# Altium schematic symbol library XC6901D251MR-G.Schlib: 1 symbol
Pins are listed as number, name and electrical type; pins without a type are passive.

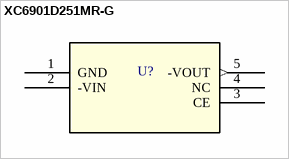
[diagram p0: symbol XC6901D251MR-G]

## XC6901D251MR-G
designator U?
-2.5v Refrence Voltage
pins: 1 GND, 2 -VIN (power), 3 CE, 4 NC, 5 -VOUT (out)